# Altium footprint library Connector_IDC.PcbLib: 182 footprints (part 1 of 12)
Each footprint in its own frame and in the unit in brackets; x right, y up, seen from the top. Pads: shape width x height; smd on the part's side, far side on the other; paste and mask are expansions set on the pad; w line width, h text height; cw(c..) or ccw(c..) is an arc to the next point about the centre after c.
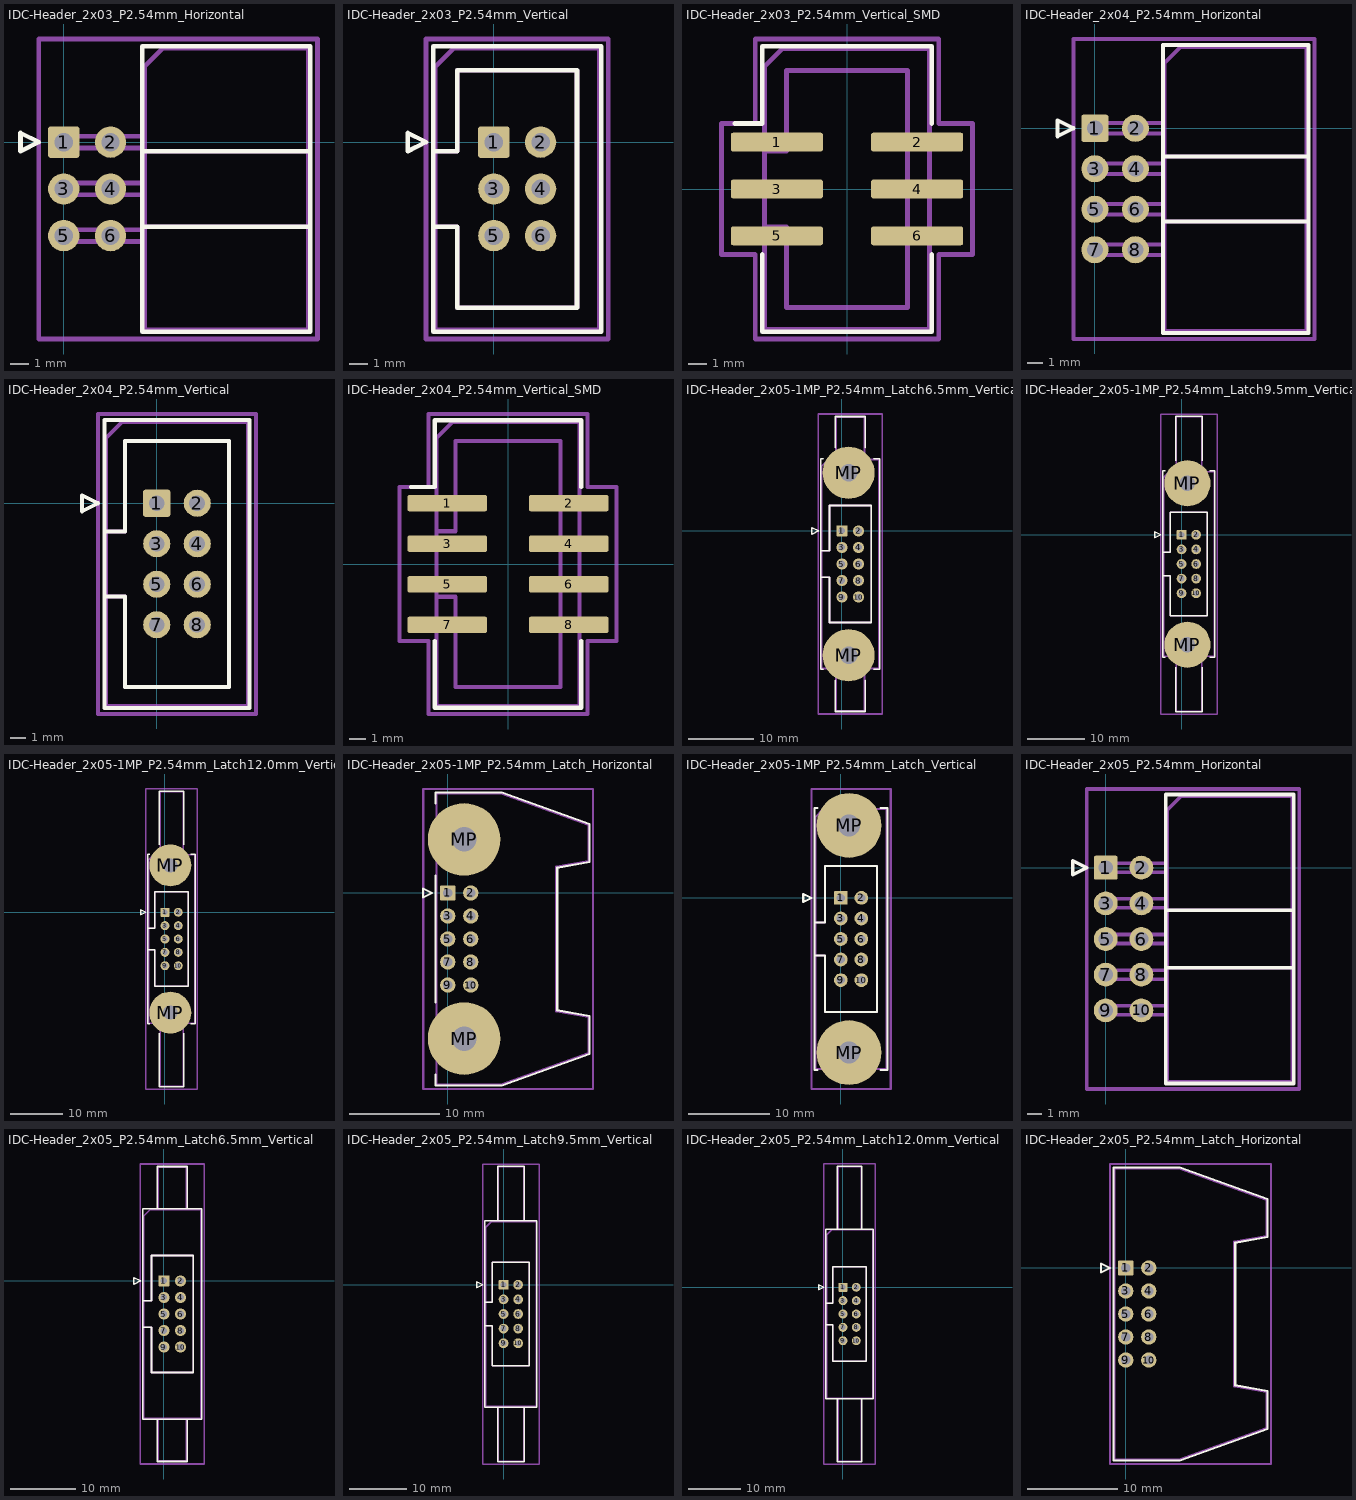
[diagram p0: the footprints below, top view; thin cyan lines are the x and y axes]

## IDC-Header_2x03_P2.54mm_Horizontal [mm]
pads (6):
  rrect15% 1.7x1.7 hole 1: 1(0,0)
  round 1.7 hole 1: 2(2.54,0) 3(0,-2.54) 4(2.54,-2.54) 5(0,-5.08) 6(2.54,-5.08)
F.SilkS:
  lines w0.254: 4.27,-4.59 13.39,-4.59 ; 4.27,-0.49 13.39,-0.49 ; -2.35,-0.5 -2.35,0.5 -1.35,0 -2.35,-0.5 ; 4.27,-10.29 4.27,5.21 13.39,5.21 13.39,-10.29 4.27,-10.29
Top Assembly:
  lines w0.254: 4.38,-5.4 -0.32,-5.4 -0.32,-4.76 4.38,-4.76 ; 4.38,-4.59 13.28,-4.59 ; 4.38,-2.86 -0.32,-2.86 -0.32,-2.22 4.38,-2.22 ; 4.38,-0.49 13.28,-0.49 ; 4.38,-0.32 -0.32,-0.32 -0.32,0.32 4.38,0.32 ; 4.38,-10.18 4.38,4.1 5.38,5.1 13.28,5.1 13.28,-10.18 4.38,-10.18
  text "'.Designator'" at 9.67,-6.587 h1
Top Courtyard:
  lines w0.254: -1.35,-10.69 -1.35,5.6 13.78,5.6 13.78,-10.69 -1.35,-10.69
Top Designator:
  text ".Designator" at -1.903,-3.053 h1.52

## IDC-Header_2x03_P2.54mm_Vertical [mm]
pads (6):
  rrect15% 1.7x1.7 hole 1: 1(0,0)
  round 1.7 hole 1: 2(2.54,0) 3(0,-2.54) 4(2.54,-2.54) 5(0,-5.08) 6(2.54,-5.08)
F.SilkS:
  lines w0.254: -3.29,-4.59 -1.98,-4.59 -1.98,-8.99 4.52,-8.99 4.52,3.91 -1.98,3.91 -1.98,-0.49 -3.29,-0.49 ; -4.68,-0.5 -3.68,0 -4.68,0.5 -4.68,-0.5 ; -3.29,-10.29 5.83,-10.29 5.83,5.21 -3.29,5.21 -3.29,-10.29
Top Assembly:
  lines w0.254: -3.18,-4.59 -1.98,-4.59 -1.98,-8.99 4.52,-8.99 4.52,3.91 -1.98,3.91 -1.98,-0.49 -3.18,-0.49 ; -3.18,-10.18 5.72,-10.18 5.72,5.1 -2.18,5.1 -3.18,4.1 -3.18,-10.18
  text "'.Designator'" at 2.11,-6.587 h1
Top Courtyard:
  lines w0.254: -3.68,-10.69 6.22,-10.69 6.22,5.6 -3.68,5.6 -3.68,-10.69
Top Designator:
  text ".Designator" at -6.848,-3.053 h1.52

## IDC-Header_2x03_P2.54mm_Vertical_SMD [mm]
pads (6):
  rrect25% 5x1.02 smd: 1(-3.8,2.54) 2(3.8,2.54) 3(-3.8,0) 4(3.8,0) 5(-3.8,-2.54) 6(3.8,-2.54)
F.SilkS:
  lines w0.254: -6.085,3.55 -4.585,3.55 -4.585,7.73 4.585,7.73 4.585,3.55 ; -4.585,-3.55 -4.585,-7.73 4.585,-7.73 4.585,-3.55
Top Assembly:
  lines w0.254: -4.475,-2.05 -3.275,-2.05 -3.275,-6.42 3.275,-6.42 3.275,6.42 -3.275,6.42 -3.275,2.05 -4.475,2.05 ; -4.475,-7.62 4.475,-7.62 4.475,7.62 -3.475,7.62 -4.475,6.62 -4.475,-7.62
  text "'.Designator'" at 0.84,-4.047 h1
Top Courtyard:
  lines w0.254: -6.8,-3.55 -4.98,-3.55 -4.98,-8.13 4.98,-8.13 4.98,-3.55 6.8,-3.55 6.8,3.55 4.98,3.55 4.98,8.13 -4.98,8.13 -4.98,3.55 -6.8,3.55 -6.8,-3.55
Top Designator:
  text ".Designator" at -7.618,-0.508 h1.52

## IDC-Header_2x04_P2.54mm_Horizontal [mm]
pads (8):
  rrect15% 1.7x1.7 hole 1: 1(0,0)
  round 1.7 hole 1: 2(2.54,0) 3(0,-2.54) 4(2.54,-2.54) 5(0,-5.08) 6(2.54,-5.08) 7(0,-7.62) 8(2.54,-7.62)
F.SilkS:
  lines w0.254: 4.27,-5.86 13.39,-5.86 ; 4.27,-1.76 13.39,-1.76 ; -2.35,-0.5 -1.35,0 -2.35,0.5 -2.35,-0.5 ; 4.27,-12.83 13.39,-12.83 13.39,5.21 4.27,5.21 4.27,-12.83
Top Assembly:
  lines w0.254: 4.38,-7.94 -0.32,-7.94 -0.32,-7.3 4.38,-7.3 ; 4.38,-5.86 13.28,-5.86 ; 4.38,-5.4 -0.32,-5.4 -0.32,-4.76 4.38,-4.76 ; 4.38,-2.86 -0.32,-2.86 -0.32,-2.22 4.38,-2.22 ; 4.38,-1.76 13.28,-1.76 ; 4.38,-0.32 -0.32,-0.32 -0.32,0.32 4.38,0.32 ; 4.38,-12.72 13.28,-12.72 13.28,5.1 5.38,5.1 4.38,4.1 4.38,-12.72
  text "'.Designator'" at 9.67,-7.857 h1
Top Courtyard:
  lines w0.254: -1.35,-13.22 13.78,-13.22 13.78,5.6 -1.35,5.6 -1.35,-13.22
Top Designator:
  text ".Designator" at -1.903,-4.318 h1.52

## IDC-Header_2x04_P2.54mm_Vertical [mm]
pads (8):
  rrect15% 1.7x1.7 hole 1: 1(0,0)
  round 1.7 hole 1: 2(2.54,0) 3(0,-2.54) 4(2.54,-2.54) 5(0,-5.08) 6(2.54,-5.08) 7(0,-7.62) 8(2.54,-7.62)
F.SilkS:
  lines w0.254: -3.29,-5.86 -1.98,-5.86 -1.98,-11.53 4.52,-11.53 4.52,3.91 -1.98,3.91 -1.98,-1.76 -3.29,-1.76 ; -4.68,-0.5 -3.68,0 -4.68,0.5 -4.68,-0.5 ; -3.29,-12.83 5.83,-12.83 5.83,5.21 -3.29,5.21 -3.29,-12.83
Top Assembly:
  lines w0.254: -3.18,-5.86 -1.98,-5.86 -1.98,-11.53 4.52,-11.53 4.52,3.91 -1.98,3.91 -1.98,-1.76 -3.18,-1.76 ; -3.18,-12.72 5.72,-12.72 5.72,5.1 -2.18,5.1 -3.18,4.1 -3.18,-12.72
  text "'.Designator'" at 2.11,-7.857 h1
Top Courtyard:
  lines w0.254: -3.68,-13.22 6.22,-13.22 6.22,5.6 -3.68,5.6 -3.68,-13.22
Top Designator:
  text ".Designator" at -6.848,-4.318 h1.52

## IDC-Header_2x04_P2.54mm_Vertical_SMD [mm]
pads (8):
  rrect25% 5x1.02 smd: 1(-3.8,3.81) 2(3.8,3.81) 3(-3.8,1.27) 4(3.8,1.27) 5(-3.8,-1.27) 6(3.8,-1.27) 7(-3.8,-3.81) 8(3.8,-3.81)
F.SilkS:
  lines w0.254: -6.085,4.82 -4.585,4.82 -4.585,9 4.585,9 4.585,4.82 ; -4.585,-4.82 -4.585,-9 4.585,-9 4.585,-4.82
Top Assembly:
  lines w0.254: -4.475,-2.05 -3.275,-2.05 -3.275,-7.69 3.275,-7.69 3.275,7.69 -3.275,7.69 -3.275,2.05 -4.475,2.05 ; -4.475,-8.89 4.475,-8.89 4.475,8.89 -3.475,8.89 -4.475,7.89 -4.475,-8.89
  text "'.Designator'" at 0.84,-4.047 h1
Top Courtyard:
  lines w0.254: -6.8,-4.82 -4.98,-4.82 -4.98,-9.39 4.98,-9.39 4.98,-4.82 6.8,-4.82 6.8,4.82 4.98,4.82 4.98,9.39 -4.98,9.39 -4.98,4.82 -6.8,4.82 -6.8,-4.82
Top Designator:
  text ".Designator" at -7.618,-0.508 h1.52

## IDC-Header_2x05-1MP_P2.54mm_Latch6.5mm_Vertical [mm]
pads (12):
  rrect15% 1.7x1.7 hole 1: 1(0,0)
  round 1.7 hole 1: 2(2.54,0) 3(0,-2.54) 4(2.54,-2.54) 5(0,-5.08) 6(2.54,-5.08) 7(0,-7.62) 8(2.54,-7.62) 9(0,-10.16) 10(2.54,-10.16)
  round 8 hole 2.69: MP(1.02,-19.1) MP(1.02,8.94)
F.SilkS:
  lines w0.254: -3.24,-7.13 -1.93,-7.13 -1.93,-14.08 4.47,-14.08 4.47,3.92 -1.93,3.92 -1.93,-3.03 -3.24,-3.03 ; -2.87,-21.24 -3.24,-21.24 -3.24,11.08 -2.87,11.08 ; -1.04,-22.99 -1.04,-27.74 3.58,-27.74 3.58,-22.99 ; -1.04,12.83 -1.04,17.58 3.58,17.58 3.58,12.83 ; 4.91,-21.24 5.78,-21.24 5.78,11.08 4.91,11.08 ; -4.63,-0.5 -3.63,0 -4.63,0.5 -4.63,-0.5
Top Assembly:
  lines w0.254: -3.13,-7.13 -1.93,-7.13 -1.93,-14.08 4.47,-14.08 4.47,3.92 -1.93,3.92 -1.93,-3.03 -3.13,-3.03 ; -0.93,-21.13 -0.93,-27.63 3.47,-27.63 3.47,-21.13 ; -0.93,10.97 -0.93,17.47 3.47,17.47 3.47,10.97 ; -3.13,-21.13 5.67,-21.13 5.67,10.97 -2.13,10.97 -3.13,9.97 -3.13,-21.13
  text "'.Designator'" at 2.11,-9.127 h1
Top Courtyard:
  lines w0.254: -3.63,-28.13 6.17,-28.13 6.17,17.97 -3.63,17.97 -3.63,-28.13
Top Designator:
  text ".Designator" at -6.848,-5.588 h1.52

## IDC-Header_2x05-1MP_P2.54mm_Latch9.5mm_Vertical [mm]
pads (12):
  rrect15% 1.7x1.7 hole 1: 1(0,0)
  round 1.7 hole 1: 2(2.54,0) 3(0,-2.54) 4(2.54,-2.54) 5(0,-5.08) 6(2.54,-5.08) 7(0,-7.62) 8(2.54,-7.62) 9(0,-10.16) 10(2.54,-10.16)
  round 8 hole 2.69: MP(1.02,-19.1) MP(1.02,8.94)
F.SilkS:
  lines w0.254: -3.24,-7.13 -1.93,-7.13 -1.93,-14.08 4.47,-14.08 4.47,3.92 -1.93,3.92 -1.93,-3.03 -3.24,-3.03 ; -2.87,-21.24 -3.24,-21.24 -3.24,11.08 -2.87,11.08 ; -1.04,-22.99 -1.04,-30.74 3.58,-30.74 3.58,-22.99 ; -1.04,12.83 -1.04,20.58 3.58,20.58 3.58,12.83 ; 4.91,-21.24 5.78,-21.24 5.78,11.08 4.91,11.08 ; -4.63,-0.5 -3.63,0 -4.63,0.5 -4.63,-0.5
Top Assembly:
  lines w0.254: -3.13,-7.13 -1.93,-7.13 -1.93,-14.08 4.47,-14.08 4.47,3.92 -1.93,3.92 -1.93,-3.03 -3.13,-3.03 ; -0.93,-21.13 -0.93,-30.63 3.47,-30.63 3.47,-21.13 ; -0.93,10.97 -0.93,20.47 3.47,20.47 3.47,10.97 ; -3.13,-21.13 5.67,-21.13 5.67,10.97 -2.13,10.97 -3.13,9.97 -3.13,-21.13
  text "'.Designator'" at 2.11,-9.127 h1
Top Courtyard:
  lines w0.254: -3.63,-31.13 6.17,-31.13 6.17,20.97 -3.63,20.97 -3.63,-31.13
Top Designator:
  text ".Designator" at -6.848,-5.588 h1.52

## IDC-Header_2x05-1MP_P2.54mm_Latch12.0mm_Vertical [mm]
pads (12):
  rrect15% 1.7x1.7 hole 1: 1(0,0)
  round 1.7 hole 1: 2(2.54,0) 3(0,-2.54) 4(2.54,-2.54) 5(0,-5.08) 6(2.54,-5.08) 7(0,-7.62) 8(2.54,-7.62) 9(0,-10.16) 10(2.54,-10.16)
  round 8 hole 2.69: MP(1.02,-19.1) MP(1.02,8.94)
F.SilkS:
  lines w0.254: -3.24,-7.13 -1.93,-7.13 -1.93,-14.08 4.47,-14.08 4.47,3.92 -1.93,3.92 -1.93,-3.03 -3.24,-3.03 ; -2.87,-21.24 -3.24,-21.24 -3.24,11.08 -2.87,11.08 ; -1.04,-22.99 -1.04,-33.24 3.58,-33.24 3.58,-22.99 ; -1.04,12.83 -1.04,23.08 3.58,23.08 3.58,12.83 ; 4.91,-21.24 5.78,-21.24 5.78,11.08 4.91,11.08 ; -4.63,-0.5 -3.63,0 -4.63,0.5 -4.63,-0.5
Top Assembly:
  lines w0.254: -3.13,-7.13 -1.93,-7.13 -1.93,-14.08 4.47,-14.08 4.47,3.92 -1.93,3.92 -1.93,-3.03 -3.13,-3.03 ; -0.93,-21.13 -0.93,-33.13 3.47,-33.13 3.47,-21.13 ; -0.93,10.97 -0.93,22.97 3.47,22.97 3.47,10.97 ; -3.13,-21.13 5.67,-21.13 5.67,10.97 -2.13,10.97 -3.13,9.97 -3.13,-21.13
  text "'.Designator'" at 2.11,-9.127 h1
Top Courtyard:
  lines w0.254: -3.63,-33.63 6.17,-33.63 6.17,23.47 -3.63,23.47 -3.63,-33.63
Top Designator:
  text ".Designator" at -6.848,-5.588 h1.52

## IDC-Header_2x05-1MP_P2.54mm_Latch_Horizontal [mm]
pads (12):
  rrect15% 1.7x1.7 hole 1: 1(0,0)
  round 1.7 hole 1: 2(2.54,0) 3(0,-2.54) 4(2.54,-2.54) 5(0,-5.08) 6(2.54,-5.08) 7(0,-7.62) 8(2.54,-7.62) 9(0,-10.16) 10(2.54,-10.16)
  round 8 hole 2.69: MP(1.8,-16.065) MP(1.8,5.905)
F.SilkS:
  lines w0.254: -1.35,-20.065 -1.35,-21.24 5.98,-21.24 15.64,-17.77 15.64,-13.58 12.08,-12.95 12.08,2.79 15.64,3.42 15.64,7.61 5.98,11.08 -1.35,11.08 -1.35,9.905 ; -1.35,-12.065 -1.35,1.905 ; -2.74,-0.5 -1.74,0 -2.74,0.5 -2.74,-0.5
Top Assembly:
  lines w0.254: -1.24,-21.13 5.87,-21.13 15.53,-17.66 15.53,-13.69 11.97,-13.06 11.97,2.9 15.53,3.53 15.53,7.5 5.87,10.97 -1.24,10.97 -1.24,-21.13
  text "'.Designator'" at 7.985,-9.127 h1
Top Courtyard:
  lines w0.254: -2.7,-21.63 16.03,-21.63 16.03,11.47 -2.7,11.47 -2.7,-21.63
Top Designator:
  text ".Designator" at -0.973,-5.588 h1.52

## IDC-Header_2x05-1MP_P2.54mm_Latch_Vertical [mm]
pads (12):
  rrect15% 1.7x1.7 hole 1: 1(0,0)
  round 1.7 hole 1: 2(2.54,0) 3(0,-2.54) 4(2.54,-2.54) 5(0,-5.08) 6(2.54,-5.08) 7(0,-7.62) 8(2.54,-7.62) 9(0,-10.16) 10(2.54,-10.16)
  round 8 hole 2.69: MP(1.02,-19.1) MP(1.02,8.94)
F.SilkS:
  lines w0.254: -3.24,-7.13 -1.93,-7.13 -1.93,-14.08 4.47,-14.08 4.47,3.92 -1.93,3.92 -1.93,-3.03 -3.24,-3.03 ; -2.87,-21.24 -3.24,-21.24 -3.24,11.08 -2.87,11.08 ; 4.91,-21.24 5.78,-21.24 5.78,11.08 4.91,11.08 ; -4.63,-0.5 -3.63,0 -4.63,0.5 -4.63,-0.5
Top Assembly:
  lines w0.254: -3.13,-7.13 -1.93,-7.13 -1.93,-14.08 4.47,-14.08 4.47,3.92 -1.93,3.92 -1.93,-3.03 -3.13,-3.03 ; -3.13,-21.13 5.67,-21.13 5.67,10.97 -2.13,10.97 -3.13,9.97 -3.13,-21.13
  text "'.Designator'" at 2.11,-9.127 h1
Top Courtyard:
  lines w0.254: -3.63,-23.6 6.17,-23.6 6.17,13.44 -3.63,13.44 -3.63,-23.6
Top Designator:
  text ".Designator" at -6.848,-5.588 h1.52

## IDC-Header_2x05_P2.54mm_Horizontal [mm]
pads (10):
  rrect15% 1.7x1.7 hole 1: 1(0,0)
  round 1.7 hole 1: 2(2.54,0) 3(0,-2.54) 4(2.54,-2.54) 5(0,-5.08) 6(2.54,-5.08) 7(0,-7.62) 8(2.54,-7.62) 9(0,-10.16) 10(2.54,-10.16)
F.SilkS:
  lines w0.254: 4.27,-7.13 13.39,-7.13 ; 4.27,-3.03 13.39,-3.03 ; -2.35,-0.5 -1.35,0 -2.35,0.5 -2.35,-0.5 ; 4.27,-15.37 13.39,-15.37 13.39,5.21 4.27,5.21 4.27,-15.37
Top Assembly:
  lines w0.254: 4.38,-10.48 -0.32,-10.48 -0.32,-9.84 4.38,-9.84 ; 4.38,-7.94 -0.32,-7.94 -0.32,-7.3 4.38,-7.3 ; 4.38,-7.13 13.28,-7.13 ; 4.38,-5.4 -0.32,-5.4 -0.32,-4.76 4.38,-4.76 ; 4.38,-3.03 13.28,-3.03 ; 4.38,-2.86 -0.32,-2.86 -0.32,-2.22 4.38,-2.22 ; 4.38,-0.32 -0.32,-0.32 -0.32,0.32 4.38,0.32 ; 4.38,-15.26 13.28,-15.26 13.28,5.1 5.38,5.1 4.38,4.1 4.38,-15.26
  text "'.Designator'" at 9.67,-9.127 h1
Top Courtyard:
  lines w0.254: -1.35,-15.76 13.78,-15.76 13.78,5.6 -1.35,5.6 -1.35,-15.76
Top Designator:
  text ".Designator" at -1.903,-5.588 h1.52

## IDC-Header_2x05_P2.54mm_Latch6.5mm_Vertical [mm]
pads (10):
  rrect15% 1.7x1.7 hole 1: 1(0,0)
  round 1.7 hole 1: 2(2.54,0) 3(0,-2.54) 4(2.54,-2.54) 5(0,-5.08) 6(2.54,-5.08) 7(0,-7.62) 8(2.54,-7.62) 9(0,-10.16) 10(2.54,-10.16)
F.SilkS:
  lines w0.254: -3.24,-7.13 -1.93,-7.13 -1.93,-14.08 4.47,-14.08 4.47,3.92 -1.93,3.92 -1.93,-3.03 -3.24,-3.03 ; -1.04,-21.24 -1.04,-27.74 3.58,-27.74 3.58,-21.24 ; -1.04,11.08 -1.04,17.58 3.58,17.58 3.58,11.08 ; -4.63,-0.5 -3.63,0 -4.63,0.5 -4.63,-0.5 ; -3.24,-21.24 5.78,-21.24 5.78,11.08 -3.24,11.08 -3.24,-21.24
Top Assembly:
  lines w0.254: -3.13,-7.13 -1.93,-7.13 -1.93,-14.08 4.47,-14.08 4.47,3.92 -1.93,3.92 -1.93,-3.03 -3.13,-3.03 ; -0.93,-21.13 -0.93,-27.63 3.47,-27.63 3.47,-21.13 ; -0.93,10.97 -0.93,17.47 3.47,17.47 3.47,10.97 ; -3.13,-21.13 5.67,-21.13 5.67,10.97 -2.13,10.97 -3.13,9.97 -3.13,-21.13
  text "'.Designator'" at 2.11,-9.127 h1
Top Courtyard:
  lines w0.254: -3.63,-28.13 6.17,-28.13 6.17,17.97 -3.63,17.97 -3.63,-28.13
Top Designator:
  text ".Designator" at -6.848,-5.588 h1.52

## IDC-Header_2x05_P2.54mm_Latch9.5mm_Vertical [mm]
pads (10):
  rrect15% 1.7x1.7 hole 1: 1(0,0)
  round 1.7 hole 1: 2(2.54,0) 3(0,-2.54) 4(2.54,-2.54) 5(0,-5.08) 6(2.54,-5.08) 7(0,-7.62) 8(2.54,-7.62) 9(0,-10.16) 10(2.54,-10.16)
F.SilkS:
  lines w0.254: -3.24,-7.13 -1.93,-7.13 -1.93,-14.08 4.47,-14.08 4.47,3.92 -1.93,3.92 -1.93,-3.03 -3.24,-3.03 ; -1.04,-21.24 -1.04,-30.74 3.58,-30.74 3.58,-21.24 ; -1.04,11.08 -1.04,20.58 3.58,20.58 3.58,11.08 ; -4.63,-0.5 -3.63,0 -4.63,0.5 -4.63,-0.5 ; -3.24,-21.24 5.78,-21.24 5.78,11.08 -3.24,11.08 -3.24,-21.24
Top Assembly:
  lines w0.254: -3.13,-7.13 -1.93,-7.13 -1.93,-14.08 4.47,-14.08 4.47,3.92 -1.93,3.92 -1.93,-3.03 -3.13,-3.03 ; -0.93,-21.13 -0.93,-30.63 3.47,-30.63 3.47,-21.13 ; -0.93,10.97 -0.93,20.47 3.47,20.47 3.47,10.97 ; -3.13,-21.13 5.67,-21.13 5.67,10.97 -2.13,10.97 -3.13,9.97 -3.13,-21.13
  text "'.Designator'" at 2.11,-9.127 h1
Top Courtyard:
  lines w0.254: -3.63,-31.13 6.17,-31.13 6.17,20.97 -3.63,20.97 -3.63,-31.13
Top Designator:
  text ".Designator" at -6.848,-5.588 h1.52

## IDC-Header_2x05_P2.54mm_Latch12.0mm_Vertical [mm]
pads (10):
  rrect15% 1.7x1.7 hole 1: 1(0,0)
  round 1.7 hole 1: 2(2.54,0) 3(0,-2.54) 4(2.54,-2.54) 5(0,-5.08) 6(2.54,-5.08) 7(0,-7.62) 8(2.54,-7.62) 9(0,-10.16) 10(2.54,-10.16)
F.SilkS:
  lines w0.254: -3.24,-7.13 -1.93,-7.13 -1.93,-14.08 4.47,-14.08 4.47,3.92 -1.93,3.92 -1.93,-3.03 -3.24,-3.03 ; -1.04,-21.24 -1.04,-33.24 3.58,-33.24 3.58,-21.24 ; -1.04,11.08 -1.04,23.08 3.58,23.08 3.58,11.08 ; -4.63,-0.5 -3.63,0 -4.63,0.5 -4.63,-0.5 ; -3.24,-21.24 5.78,-21.24 5.78,11.08 -3.24,11.08 -3.24,-21.24
Top Assembly:
  lines w0.254: -3.13,-7.13 -1.93,-7.13 -1.93,-14.08 4.47,-14.08 4.47,3.92 -1.93,3.92 -1.93,-3.03 -3.13,-3.03 ; -0.93,-21.13 -0.93,-33.13 3.47,-33.13 3.47,-21.13 ; -0.93,10.97 -0.93,22.97 3.47,22.97 3.47,10.97 ; -3.13,-21.13 5.67,-21.13 5.67,10.97 -2.13,10.97 -3.13,9.97 -3.13,-21.13
  text "'.Designator'" at 2.11,-9.127 h1
Top Courtyard:
  lines w0.254: -3.63,-33.63 6.17,-33.63 6.17,23.47 -3.63,23.47 -3.63,-33.63
Top Designator:
  text ".Designator" at -6.848,-5.588 h1.52

## IDC-Header_2x05_P2.54mm_Latch_Horizontal [mm]
pads (10):
  rrect15% 1.7x1.7 hole 1: 1(0,0)
  round 1.7 hole 1: 2(2.54,0) 3(0,-2.54) 4(2.54,-2.54) 5(0,-5.08) 6(2.54,-5.08) 7(0,-7.62) 8(2.54,-7.62) 9(0,-10.16) 10(2.54,-10.16)
F.SilkS:
  lines w0.254: -2.74,-0.5 -1.74,0 -2.74,0.5 -2.74,-0.5 ; -1.35,-21.24 5.98,-21.24 15.64,-17.77 15.64,-13.58 12.08,-12.95 12.08,2.79 15.64,3.42 15.64,7.61 5.98,11.08 -1.35,11.08 -1.35,-21.24
Top Assembly:
  lines w0.254: -1.24,-21.13 5.87,-21.13 15.53,-17.66 15.53,-13.69 11.97,-13.06 11.97,2.9 15.53,3.53 15.53,7.5 5.87,10.97 -1.24,10.97 -1.24,-21.13
  text "'.Designator'" at 7.985,-9.127 h1
Top Courtyard:
  lines w0.254: -1.74,-21.63 16.03,-21.63 16.03,11.47 -1.74,11.47 -1.74,-21.63
Top Designator:
  text ".Designator" at -0.973,-5.588 h1.52